# Altium schematic symbol library INA827 Inst Amp Single Supply 3V - 36V.SchLib: 1 symbol
Pins are listed as number, name and electrical type; pins without a type are passive.

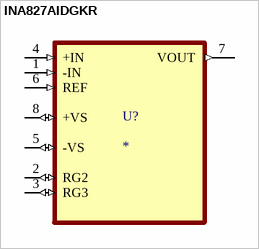
[diagram p0: symbol INA827AIDGKR]

## INA827AIDGKR
designator U?
Precision, G>5, 200uA, 2.7-V to 36-V Supply Instrumentation Amplifier 8-VSSOP -40 to 125; MF: Texas Instruments; MP: INA827AIDGKR; Value: *; Check_prices: https://www.snapeda.com/parts/INA827AIDGKR/Texas%20Instruments/view-part/122242/?ref=eda; Price: None; SnapEDA_Link: https://www.snapeda.com/parts/INA827AIDGKR/Texas%20Instruments/view-part/122242/?ref=snap; Purchase-URL: https://pricing.snapeda.com/search/part/INA827AIDGKR/?ref=eda; Package: VSSOP-8 Texas Instruments; Availability: Good
footprint SOP65P490X110-8N
pins: 1 -IN (in), 2 RG2 (io), 3 RG3 (io), 4 +IN (in), 5 -VS (io), 6 REF (in), 7 VOUT (out), 8 +VS (io)